# EAGLE library part AS-ITM-00356 (library tinycircuits)
TMP007 SENSOR TEMP I2C/SMBUS 8DSBGA IR THERMOPILE
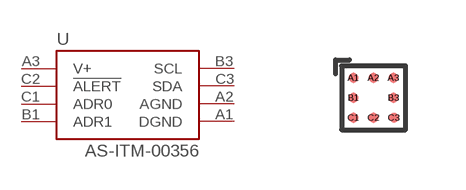
[diagram p141: symbol with the pads of 8DSBGA; footprint 8DSBGA]

Designator prefix U

## AS-ITM-00356 (PARTNO: AS-ITM-00356; VALUE: TMP007)  [8DSBGA]
A1  DGND
A2  AGND
A3  V+
B1  ADR1
B3  SCL
C1  ADR0
C2  !ALERT
C3  SDA

## Footprint 8DSBGA (pad centres in mm)
TMP007 IR Thermopile Sensor Land Pattern SENSOR TEMP I2C/SMBUS 8DSBGA Datasheet: http://www.ti.com/lit/ds/symlink/tmp007.pdf
smd 0.254 x 0.254: A1 -0.5,0.5; A2 0,0.5; A3 0.5,0.5; B1 -0.5,0; B3 0.5,0; C1 -0.5,-0.5; C2 0,-0.5; C3 0.508,-0.5